# Altium footprint library RPL_POWER2.PcbLib: 47 footprints (part 1 of 3)
Each footprint in its own frame and in the unit in brackets; x right, y up, seen from the top. Pads: shape width x height; smd on the part's side, far side on the other; paste and mask are expansions set on the pad; w line width, h text height; cw(c..) or ccw(c..) is an arc to the next point about the centre after c.
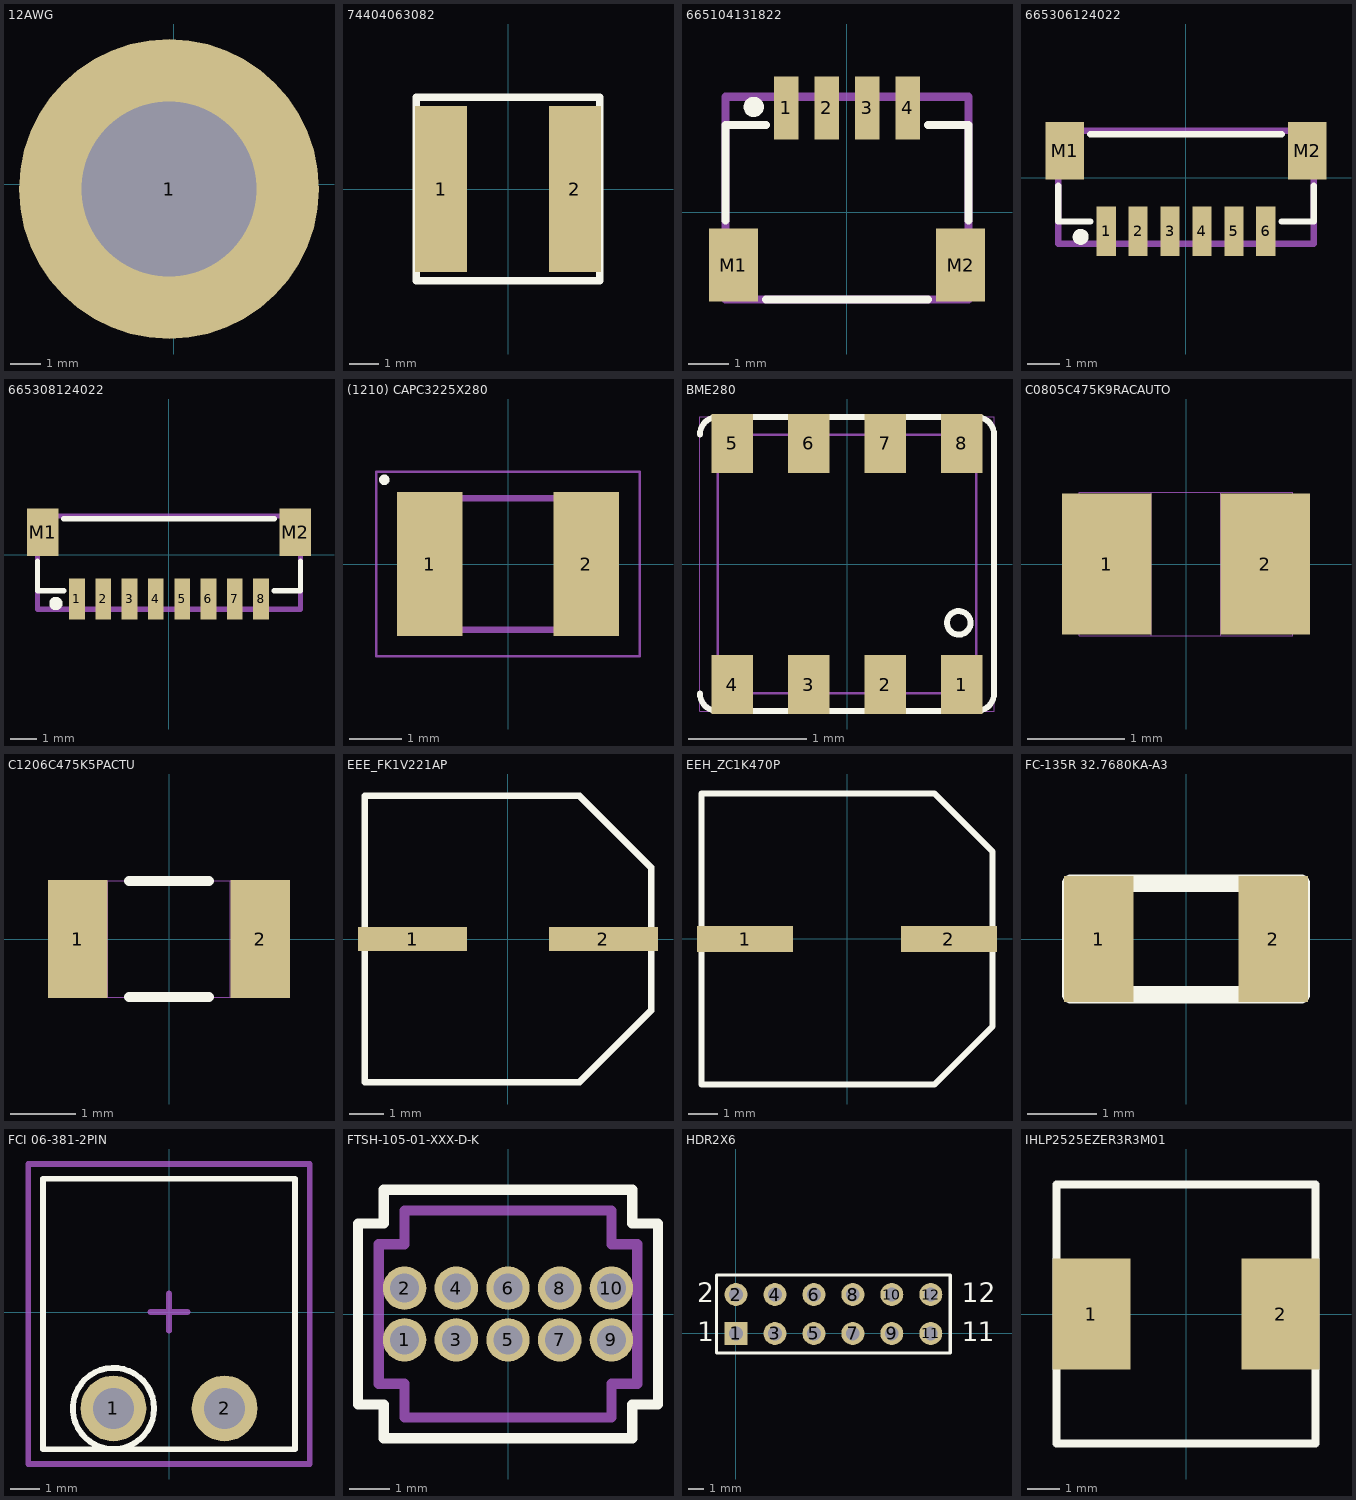
[diagram p0: the footprints below, top view; thin cyan lines are the x and y axes]

## 12AWG [mm]
pads (1):
  round 10 hole 5.842: 1(-0.152,-0.16)

## 74404063082 [mm]
pads (2):
  rect 1.8x5.7 smd: 1(-2.3,0) 2(2.3,0)
Top Overlay:
  lines w0.254: -3.15,-3.15 3.15,-3.15 3.15,3.15 -3.15,3.15 -3.15,-3.15

## 665104131822 [mm]
pads (6):
  rect 0.6x1.55 smd: 1(-1.5,2.575) 2(-0.5,2.575) 3(0.5,2.575) 4(1.5,2.575)
  rect 1.2x1.8 smd: M1(-2.8,-1.3) M2(2.8,-1.3)
Top Overlay:
  circle w0.3: c-2.3,2.6 r0.1
  lines w0.2: -3,-0.2 -3,2.15 -2,2.15 ; -2,-2.15 2,-2.15 ; 2,2.15 3,2.15 3,-0.2
Mechanical 13:
  lines w0.2: -3,-2.15 -3,2.85 3,2.85 3,-2.15 -3,-2.15
3D body "665104131822.stp": height 2.97, standoff 0, extent -3,-2.1 3,2.85

## 665306124022 [mm]
pads (8):
  rect 0.6x1.55 smd: 1(-2.5,-1.675) 2(-1.5,-1.675) 3(-0.5,-1.675) 4(0.5,-1.675) 5(1.5,-1.675) 6(2.5,-1.675)
  rect 1.2x1.8 smd: M1(-3.8,0.85) M2(3.8,0.85)
Top Overlay:
  circle w0.3: c-3.3,-1.85 r0.1
  lines w0.2: -4,-0.25 -4,-1.37 -3,-1.37 ; -3,1.37 3,1.37 ; 3,-1.37 4,-1.37 4,-0.25
Mechanical 13:
  lines w0.2: -4,-2.07 -4,1.47 4,1.47 4,-2.07 -4,-2.07
3D body "665306124022.stp": height 4.29, standoff 0.01, extent -4,-2.07 4,1.475

## 665308124022 [mm]
pads (10):
  rect 0.6x1.55 smd: 1(-3.5,-1.675) 2(-2.5,-1.675) 3(-1.5,-1.675) 4(-0.5,-1.675) 5(0.5,-1.675) 6(1.5,-1.675) 7(2.5,-1.675) 8(3.5,-1.675)
  rect 1.2x1.8 smd: M1(-4.8,0.85) M2(4.8,0.85)
Top Overlay:
  circle w0.3: c-4.3,-1.85 r0.1
  lines w0.2: -5,-0.25 -5,-1.37 -4,-1.37 ; -4,1.37 4,1.37 ; 4,-1.37 5,-1.37 5,-0.25
Mechanical 13:
  lines w0.2: -5,-2.07 5,-2.07 5,1.47 -5,1.47 -5,-2.07
3D body "665308124022.stp": height 4.29, standoff 0.01, extent -5,-2.07 5,1.475

## (1210) CAPC3225X280 [mm]
pads (2):
  rect 1.24x2.73 smd: 1(-1.485,0) 2(1.485,0)
Top Overlay:
  circle w0.1: c-2.35,1.6 r0.05
Mechanical 1:
  region: -1.607,1.25 -1.1,1.25 -1.1,-1.255 -1.607,-1.255
  region: 1.104,1.25 1.6,1.25 1.6,-1.254 1.104,-1.254
  lines w0.05: -2.5,-1.75 2.5,-1.75 2.5,1.75 -2.5,1.75 -2.5,-1.75
  lines w0.127: -1.6,-1.25 1.6,-1.25 1.6,1.25 -1.6,1.25 -1.6,-1.25

## BME280 [mm]
pads (8):
  rect 0.35x0.5 smd: 1(0.975,-1.025) 2(0.325,-1.025) 3(-0.325,-1.025) 4(-0.975,-1.025) 5(-0.975,1.025) 6(-0.325,1.025) 7(0.325,1.025) 8(0.975,1.025)
Top Overlay:
  circle w0.05: c0.95,-0.5 r0.1
  lines w0.02: -1.1,-1 ccw(c-1,-1) -1,-1.1 ; -1.1,1 cw(c-1,1) -1,1.1 ; 1,-1.1 ccw(c1,-1) 1.1,-1 ; 1,1.1 cw(c1,1) 1.1,1
  lines w0.05: -1.25,-1.1 ccw(c-1.1,-1.1) -1.1,-1.25 -1.05,-1.25 1.1,-1.25 ccw(c1.1,-1.1) 1.25,-1.1 1.25,-1.05 1.25,1.1 ccw(c1.1,1.1) 1.1,1.25 1.05,1.25 -1.1,1.25 ccw(c-1.1,1.1) -1.25,1.1
Mechanical 1:
  lines w0.01: -1.25,-1.25 -1.25,1.25 1.25,1.25 1.25,-1.25 -1.25,-1.25
  lines w0.02: -1.1,-1 -1.1,1 ; -1,-1.1 1,-1.1 ; -1,1.1 1,1.1 ; 1.1,-1 1.1,1

## C0805C475K9RACAUTO [mil]
pads (2):
  rect 36x57 smd: 1(-32,0) 2(32,0)
Mechanical 1:
  lines w0: -14,-29 -14,29 ; -14,-29 -43,-29 -43,29 -14,29 ; -14,-29 14,-29 ; -14,29 14,29 ; 14,-29 14,29 ; 14,-29 43,-29 43,29 14,29

## C1206C475K5PACTU [mil]
pads (2):
  rect 36x71 smd: 1(-55,0) 2(55,0)
Top Overlay:
  lines w6: -24,-35 24,-35 ; -24,35 24,35
Mechanical 1:
  lines w0: -37,-35 -37,35 ; -37,-35 -67,-35 -67,35 -37,35 ; -37,-35 37,-35 ; -37,35 37,35 ; 37,-35 37,35 ; 37,-35 67,-35 67,35 37,35

## EEE_FK1V221AP [mm]
pads (2):
  rect 3.2x0.7 smd: 1(-2.8,0) 2(2.8,0)
Top Overlay:
  lines w0.2: -4.2,-4.2 -4.2,2.15 -4.2,4.2 2.1,4.2 4.2,2.1 4.2,1.783 4.2,0.167 4.2,-2.1 2.1,-4.2 -4.2,-4.2

## EEH_ZC1K470P [mm]
pads (2):
  rect 3.3x0.9 smd: 1(-3.5,0) 2(3.5,0)
Top Overlay:
  lines w0.2: -5,-5 3,-5 5,-3 5,3 3,5 -5,5 -5,1.925 -5,-5

## FC-135R 32.7680KA-A3 [mm]
pads (2):
  rect 1x1.8 smd: 1(-1.25,0) 2(1.25,0)
Top Overlay:
  lines w0.254: -1.65,-0.8 -1.65,0.8 1.65,0.8 1.65,-0.8 -1.65,-0.8

## FCI 06-381-2PIN [mm]
pads (2):
  round 2.25 hole 1.4: 1(-1.905,-3.302) 2(1.905,-3.302)
Top Overlay:
  circle w0.2: c-1.905,-3.302 r1.393
  lines w0.2: -4.318,-4.699 4.318,-4.699 4.318,4.572 -4.318,4.572 -4.318,-4.699
Mechanical 15:
  lines w0.2: -0.635,0 0.635,0 ; 0,-0.635 0,0.635 ; -4.826,-5.207 4.826,-5.207 4.826,5.08 -4.826,5.08 -4.826,-5.207
3D body "FCI 06-381 2Pos.STEP": height 7.6, standoff -3.52, extent -4.405,-4.699 4.405,4.501

## FTSH-105-01-XXX-D-K [mil]
pads (10):
  round 42 hole 28 mask+3: 1(-100,-25) 2(-100,25) 3(-50,-25) 4(-50,25) 5(0,-25) 6(0,25) 7(50,-25) 8(50,25) 9(100,-25) 10(100,25)
Top Overlay:
  lines w10: -145,-87.5 -120,-87.5 -120,-120 120,-120 120,-87.5 145,-87.5 145,87.5 120,87.5 120,120 -120,120 -120,87.5 -145,87.5 -145,-87.5
Mechanical 1:
  lines w10: -125,-67.5 -100,-67.5 -100,-100 100,-100 100,-67.5 125,-67.5 125,67.5 100,67.5 100,100 -100,100 -100,67.5 -125,67.5 -125,-67.5
  text "J1" at -19.57,-20 h30

## HDR2X6 [mm]
pads (12):
  rect 1.5x1.5 hole 0.9: 1(0,0)
  round 1.5 hole 0.9: 2(0,2.54) 3(2.54,0) 4(2.54,2.54) 5(5.08,0) 6(5.08,2.54) 7(7.62,0) 8(7.62,2.54) 9(10.16,0) 10(10.16,2.54) 11(12.7,0) 12(12.7,2.54)
Top Overlay:
  lines w0.2: -1.27,-1.27 -1.27,3.81 13.97,3.81 13.97,-1.27 -1.27,-1.27
  text "2" at -2.54,2.032 h1.27
  text "1" at -2.54,-0.508 h1.27
  text "1" at 14.732,-0.508 h1.27
  text "1" at 15.748,-0.508 h1.27
  text "12" at 14.732,2.032 h1.27

## IHLP2525EZER3R3M01 [mil]
pads (2):
  rect 95x135 smd: 1(-115,0) 2(115,0)
Top Overlay:
  lines w10: -157.48,-157.48 -157.48,157.48 157.48,157.48 157.48,-157.48 -157.48,-157.48